# Altium schematic symbol library TEP_243-Altium_Library.SCHLIB: 49 symbols
Pins are listed as number, name and electrical type; pins without a type are passive.

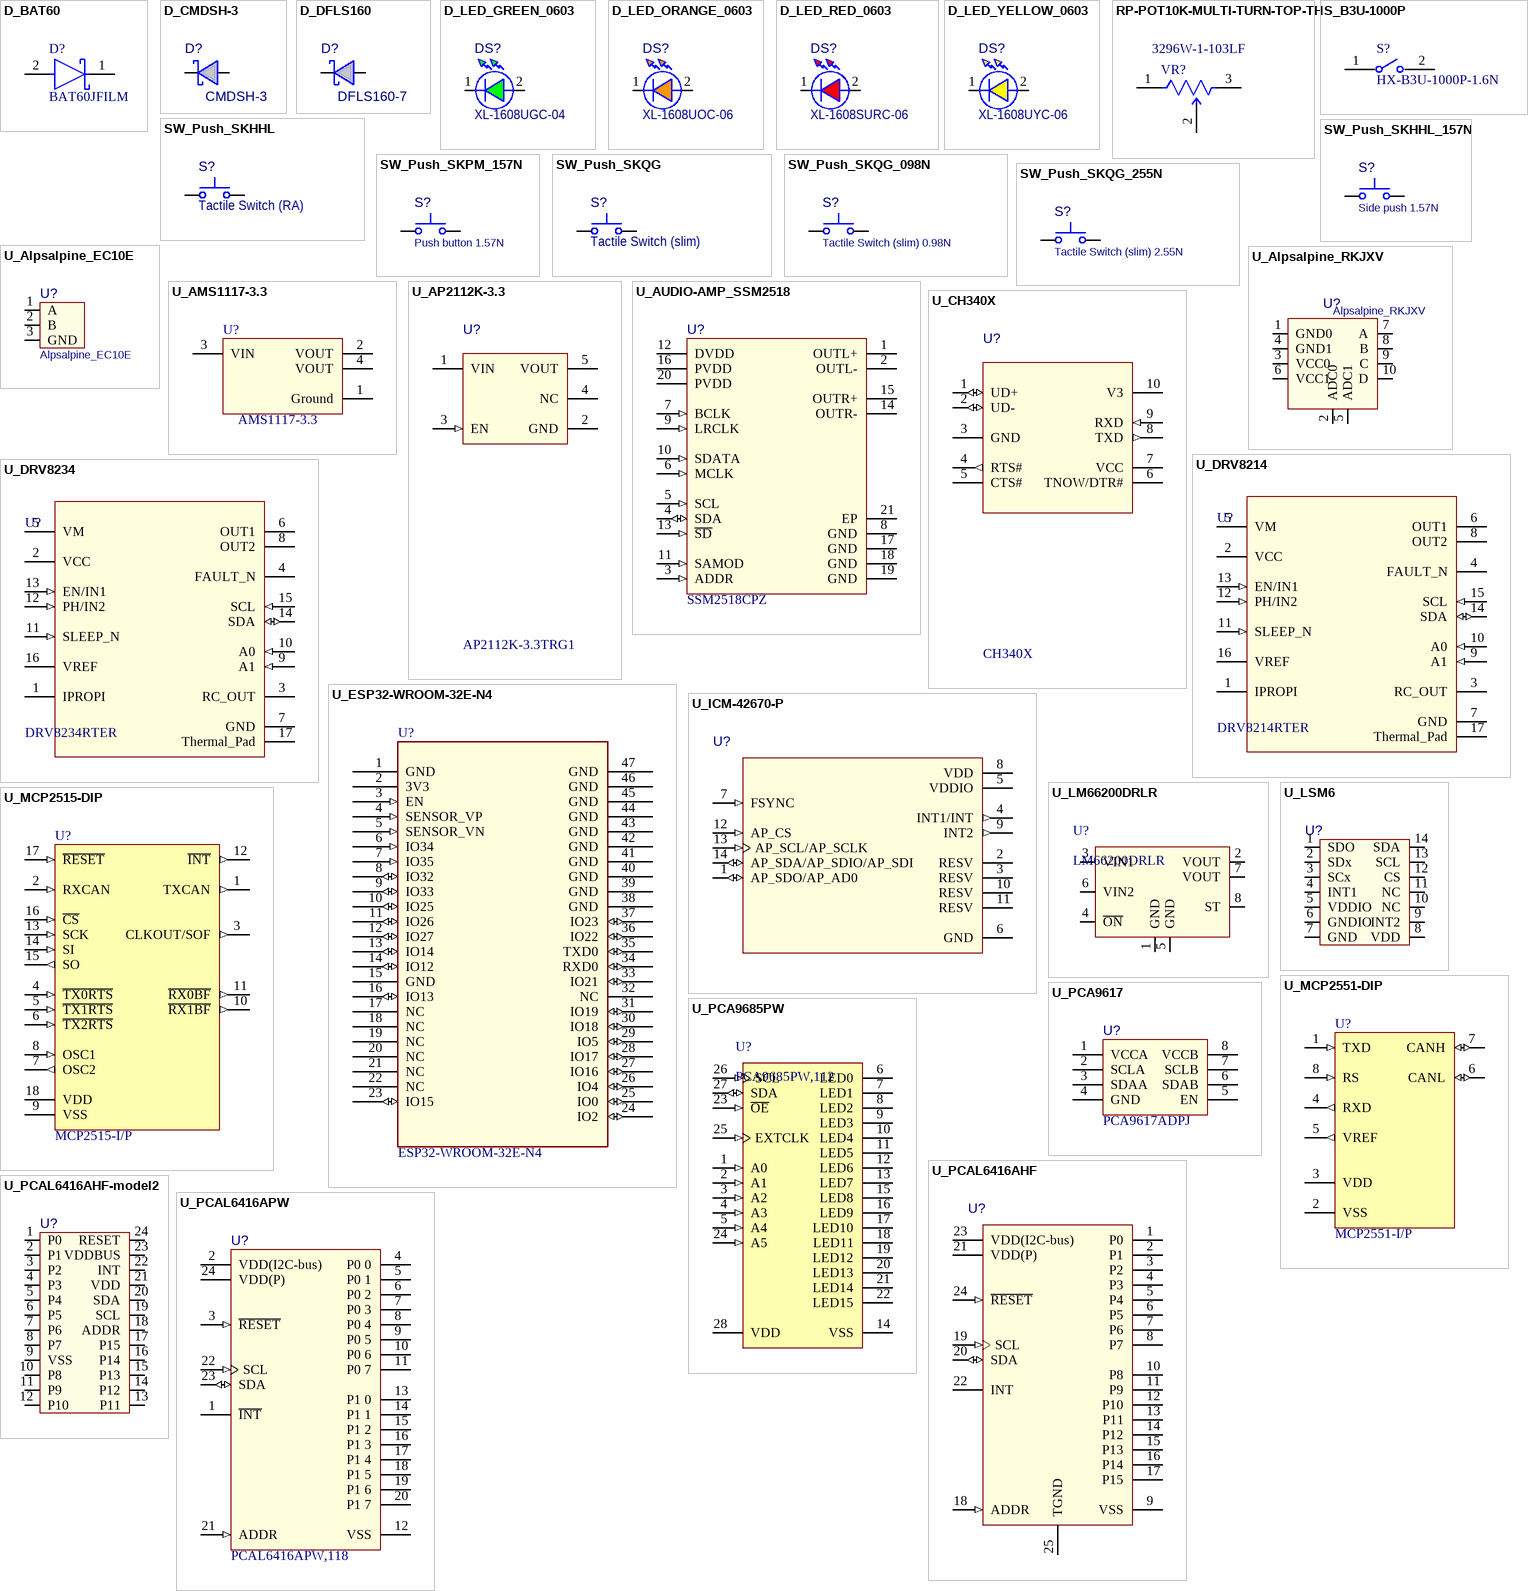
[diagram p0: symbols D_BAT60 to U_PCAL6416APW]

## D_BAT60
designator D?, comment BAT60JFILM
DIODE SCHOTTKY 10V 3A SOD323; Manufacturer 1: ST; Manufacturer Part Number 1: BAT60JFILM; Mounting Technology: SMT; Supplier 1: LCSC; Supplier Part Number 1: C133103
footprint SOD323
pins: 1 K, 2 A

## D_CMDSH-3
designator D?, comment CMDSH-3
Schottky Diode SOD-323; Manufacturer 1: Central Semiconductor; Value: CMDSH-3; Manufacturer Part Number 1: CMDSH-3; Mounting Technology: SMT; Supplier 1: LCSC; Supplier Part Number 1: C5240485
footprint D_SOD323N(TBD)
pins: 1 K, 2 A

## D_DFLS160
designator D?, comment DFLS160-7
Schottky Diode 60V 1A; Manufacturer 1: Diodes Incorporated; Value: DFLS160-7; Manufacturer Part Number 1: DFLS160-7; Mounting Technology: SMT; Supplier 1: LCSC; Supplier 2: DigiKey; Supplier Part Number 1: C177023; Supplier Part Number 2: DFLS160DICT-ND
footprint D_SOD123 (diode)
pins: 1 K, 2 A

## D_LED_GREEN_0603
designator DS?, comment XL-1608UGC-04
LED Green Clear 40mcd 140deg; Manufacturer 1: XINGLIGHT; Code CEGEP: KLEDVC0603; Value: Green; Manufacturer 2: Wurth; Manufacturer Part Number 1: XL-1608UGC-04; Manufacturer Part Number 2: 150060VS75000; Mounting Technology: SMT; Supplier 1: LCSC; Supplier 2: Digikey; Supplier Part Number 1: C965804; Supplier Part Number 2: 732-4980-1-ND
footprint D_LED_0603 (Chip LED, 2-Leads, Body 1.6x0.8mm, IPC Medium Density)
pins: 1 K, 2 A

## D_LED_ORANGE_0603
designator DS?, comment XL-1608UOC-06
LED Orange Clear; Manufacturer 1: XINGLIGHT; Code CEGEP: KLEDOC0603; Value: Orange; Manufacturer 2: Wurth; Manufacturer Part Number 1: XL-1608UOC-06; Manufacturer Part Number 2: 150060AS75000; Mounting Technology: SMT; Supplier 1: LCSC; Supplier 2: Digikey; Supplier Part Number 1: C965800; Supplier Part Number 2: 732-150060AS75000CT-ND
footprint D_LED_0603 (Chip LED, 2-Leads, Body 1.6x0.8mm, IPC Medium Density)
pins: 1 K, 2 A

## D_LED_RED_0603
designator DS?, comment XL-1608SURC-06
LED Red Clear 60mcd 140deg; Manufacturer 1: XINGLIGHT; Code CEGEP: KLEDRC0603; Value: Red; Manufacturer 2: Wurth; Manufacturer Part Number 1: XL-1608SURC-06; Manufacturer Part Number 2: 150060SS75000; Mounting Technology: SMT; Supplier 1: LCSC; Supplier 2: Digikey; Supplier Part Number 1: C965799; Supplier Part Number 2: 732-4979-1-ND
footprint D_LED_0603 (Chip LED, 2-Leads, Body 1.6x0.8mm, IPC Medium Density)
pins: 1 K, 2 A

## D_LED_YELLOW_0603
designator DS?, comment XL-1608UYC-06
LED Yellow Clear; Manufacturer 1: XINGLIGHT; Code CEGEP: KLEDJC0603; Value: Yellow; Manufacturer 3: Wurth; Manufacturer Part Number 1: XL-1608UYC-06; Manufacturer Part Number 2: 150060YS75000; Mounting Technology: SMT; Supplier 1: LCSC; Supplier 2: Digikey; Supplier Part Number 1: C965802; Supplier Part Number 2: 732-4981-1-ND
footprint D_LED_0603 (Chip LED, 2-Leads, Body 1.6x0.8mm, IPC Medium Density)
pins: 1 K, 2 A

## RP-POT10K-MULTI-TURN-TOP-TH
designator VR?, comment 3296W-1-103LF
TRIMMER 10K OHM 0.5W PC PIN TOP; Manufacturer 1: JIERR; Manufacturer Part Number 1: 3296W-1-103LF; Mounting Technology: TH; Manufacturer 2: BOURNS; Manufacturer Part Number 2: 3296W-1-103LF; Supplier 1: LCSC; Supplier 2: LCSC; Supplier Part Number 1: C49190453; Supplier Part Number 2: C34846
footprint R-POT-TH-TOP
pins: 1 CCW, 2 WIPER, 3 CW

## S_B3U-1000P
designator S?, comment HX-B3U-1000P-1.6N
SWITCH TACTILE SPST-NO 0.05A 12V; Manufacturer 1: hanxia; Mounting Technology: SMT; Supplier 1: LCSC; Supplier Part Number 1: C49234121; Manufacturer 2: Omron; Manufacturer Part Number 1: HX-B3U-1000P-1.6N; Manufacturer Part Number 2: B3U-1000P
footprint S_B3U-1000P
pins: 1, 2

## SW_Push_SKHHL
designator S?, comment value Tactile Switch (RA)  (hidden comment: SKHHLNA010)
Tactile Switch (Right Angle); Manufacturer 1: ALPSALPINE; Supplier Part Number 2: C125031; Supplier 2: LSSC; Manufacturer Part Number 1: SKHHLNA010; Supplier 1: Digi-Key; Supplier Part Number 1: 4809-SKHHLNA010-ND; Mounting Technology: TH
footprint S_Alpsalpine_SKHHL
pins: 1, 2

## SW_Push_SKHHL_157N
designator S?, comment value Side push 1.57N  (hidden comment: SKHHLNA010)
Side push 6.0mm Square Type (Snap-in) 1.57N l=3.85mm; Manufacturer 1: ALPSALPINE; Manufacturer Part Number 1: SKHHLNA010; Mounting Technology: TH; Supplier 1: LCSC; Supplier 2: DigiKey; Supplier Part Number 1: C125031; Supplier Part Number 2: 4809-SKHHLNA010-ND
footprint S_Alpsalpine_SKHHL
pins: 1, 2

## SW_Push_SKPM_157N
designator S?, comment value Push button 1.57N  (hidden comment: SKPMAME010)
Push button 1.57N; Manufacturer 1: ALPSALPINE; Manufacturer Part Number 1: SKPMAME010; Mounting Technology: SMT; Supplier 1: LCSC; Supplier 2: DigiKey; Supplier Part Number 1: C115348; Supplier Part Number 2: 4809-SKPMAME010CT-ND
footprint S_Alpsalpine_SKPM
pins: 1, 2

## SW_Push_SKQG
designator S?, comment value Tactile Switch (slim)  (hidden comment: SKQGAFE010)
Tactile Switch (dome); Manufacturer 1: ALPSALPINE; Supplier Part Number 2: C202424; Supplier 2: LSSC; Manufacturer Part Number 1: SKQGAFE010; Supplier 1: Digi-Key; Supplier Part Number 1: 4809-SKQGAFE010CT-ND; Mounting Technology: SMT
footprint S_Alpsalpine_SKQG
pins: 1, 2

## SW_Push_SKQG_098N
designator S?, comment value Tactile Switch (slim) 0.98N  (hidden comment: SKQGAFE010)
Tactile Switch (dome) 0.98N; Manufacturer 1: ALPSALPINE; Manufacturer Part Number 1: SKQGAFE010; Mounting Technology: SMT; Supplier 1: LCSC; Supplier 2: DigiKey; Supplier Part Number 1: C202424; Supplier Part Number 2: 4809-SKQGAFE010CT-ND
footprint S_Alpsalpine_SKQG
pins: 1, 2

## SW_Push_SKQG_255N
designator S?, comment value Tactile Switch (slim) 2.55N  (hidden comment: SKQGADE010)
Tactile Switch (dome) 2.55N; Manufacturer 1: ALPSALPINE; Manufacturer Part Number 1: SKQGADE010; Mounting Technology: SMT; Supplier 1: LCSC; Supplier 2: Digikey; Supplier Part Number 1: C116647; Supplier Part Number 2: 4809-SKQGADE010CT-ND
footprint S_Alpsalpine_SKQG
pins: 1, 2

## U_Alpsalpine_EC10E
designator U?, comment value Alpsalpine_EC10E  (hidden comment: EC10E1220503)
Rotary Encoder TH; Manufacturer 1: ALPSALPINE; Manufacturer Part Number 1: EC10E1220503; Mounting Technology: TH; Supplier 1: LCSC; Supplier 2: DigiKey; Supplier Part Number 1: C110291; Supplier Part Number 2: 4809-EC10E1220503-ND
footprint U_Alpsalpine_EC10E (Rotary Encoder TH)
pins: 1 A, 2 B, 3 GND

## U_Alpsalpine_RKJXV
designator U?, comment value Alpsalpine_RKJXV  (hidden comment: RKJXV122400R)
ThumbStick; Manufacturer 1: ALPSALPINE; Manufacturer Part Number 1: RKJXV122400R; Mounting Technology: TH; Supplier 1: LCSC; Supplier 2: Mouser; Supplier Part Number 1: C918854; Supplier Part Number 2: 688-RKJXV122400R
footprint U_Alpsalpine_RKJXV122400R (Thumb Stick TH)
pins: 1 GND0, 2 ADC0, 3 VCC0, 4 GND1, 5 ADC1, 6 VCC1, 7 A, 8 B, 9 C, 10 D

## U_AMS1117-3.3
designator U?, comment AMS1117-3.3
LDO Voltage Regulators 1A, 3.3V; Manufacturer 1: UMW; Manufacturer Part Number 1: AMS1117-3.3; Mounting Technology: SMT; Manufacturer 2: Advanced Monolithic Systems; Manufacturer Part Number 2: AMS1117-3.3; Supplier 1: LCSC; Supplier 2: LCSC; Supplier Part Number 1: C347222; Supplier Part Number 2: C6186
footprint SOT-223
pins: 1 Ground (power), 2 VOUT, 3 VIN (power), 4 VOUT

## U_AP2112K-3.3
designator U?, comment AP2112K-3.3TRG1
IC REG LINEAR 3.3V 600MA SOT23-5; Manufacturer 1: Diodes Incorporated; Manufacturer Part Number 1: AP2112K-3.3TRG1; Mounting Technology: SMT; Supplier 1: LCSC; Supplier 2: DigiKey; Supplier Part Number 1: C51118; Supplier Part Number 2: AP2112K-3.3TRG1DICT-ND
footprint U_SOT23-5N(MO-178)
pins: 1 VIN (power), 2 GND (power), 3 EN (in), 4 NC, 5 VOUT (power)

## U_AUDIO-AMP_SSM2518
designator U?, comment SSM2518CPZ
IC AMP CLASS D STER 2.5W 20LFCSP; Manufacturer 1: Analog Devices; Manufacturer Part Number 1: SSM2518CPZ; Mounting Technology: SMT; Supplier 1: Digi-Key; Supplier 2: LSSC; Supplier Part Number 1: 505-SSM2518CPZ-ND; Supplier Part Number 2: C208202
footprint FP-CP-20-8-IPC_N
pins: 1 OUTL+, 2 OUTL-, 3 ADDR (in), 4 SDA (io), 5 SCL (in), 6 MCLK (in), 7 BCLK (in), 8 GND (power), 9 LRCLK (in), 10 SDATA (in), 11 SAMOD (in), 12 DVDD (power), 13 ~{SD} (in), 14 OUTR-, 15 OUTR+, 16 PVDD (power), 17 GND (power), 18 GND (power), 19 GND (power), 20 PVDD (power), 21 EP

## U_CH340X
designator U?, comment CH340X
IC USB to Serial Port; Manufacturer 1: WCH(Jiangsu Qin Heng); Code CEGEP: KPTSO02; Manufacturer Part Number 1: CH340X; Mounting Technology: SMT; Supplier 1: LCSC; Supplier Part Number 1: C3035748
footprint U_MSOP50P300X500-10(RM-10)_WO-TP (Shrink Small Outline; 10 Leads; Body Width 3 mm; Pitch 0.5 mm)
pins: 1 UD+ (io), 2 UD- (io), 3 GND (power), 4 RTS# (out), 5 CTS#, 6 TNOW/DTR#, 7 VCC (power), 8 TXD (out), 9 RXD (in), 10 V3 (power)

## U_DRV8214
designator U?, comment DRV8214RTER
Brushed DC H-bridge Motor Driver with Ripple Counting, Stall Detection, and Speed Regulation 11V 2A 16-WQFN; Manufacturer 1: Texas Instruments; Mounting Technology: SMT; Manufacturer Part Number 1: DRV8214RTER; Supplier 1: LCSC
footprint U_WQFN50P300X300-16
pins: 1 IPROPI, 2 VCC (power), 3 RC_OUT (oc), 4 FAULT_N (oc), 5 VM (power), 6 OUT1, 7 GND (power), 8 OUT2, 9 A1 (in), 10 A0 (in), 11 SLEEP_N (in), 12 PH/IN2 (in), 13 EN/IN1 (in), 14 SDA (io), 15 SCL (in), 16 VREF, 17 Thermal_Pad (power)

## U_DRV8234
designator U?, comment DRV8234RTER
Brushed DC H-bridge Motor Driver with Ripple Counting, Stall Detection, and Speed Regulation 38V 2A 16-WQFN; Manufacturer 1: Texas Instruments; Mounting Technology: SMT; Manufacturer Part Number 1: DRV8234RTER; Supplier 1: LCSC
footprint U_WQFN50P300X300-16
pins: 1 IPROPI, 2 VCC (power), 3 RC_OUT (oc), 4 FAULT_N (oc), 5 VM (power), 6 OUT1, 7 GND (power), 8 OUT2, 9 A1 (in), 10 A0 (in), 11 SLEEP_N (in), 12 PH/IN2 (in), 13 EN/IN1 (in), 14 SDA (io), 15 SCL (in), 16 VREF, 17 Thermal_Pad (power)

## U_ESP32-WROOM-32E-N4
designator U?, comment ESP32-WROOM-32E-N4
Description; Manufacturer 1: Espressif Systems; Manufacturer Part Number 1: ESP32-WROOM-32E-N4; Supplier 1: LCSC; Supplier Part Number 1: C701341
footprint ESP32­WROOM­32E_EXP
footprint ESP32­WROOM­32E_EXP-TH
pins: 1 GND (power), 2 3V3 (power), 3 EN (in), 4 SENSOR_VP (in), 5 SENSOR_VN (in), 6 IO34 (in), 7 IO35 (in), 8 IO32 (io), 9 IO33 (io), 10 IO25 (io), 11 IO26 (io), 12 IO27 (io), 13 IO14 (io), 14 IO12 (io), 15 GND (power), 16 IO13 (io), 17 NC, 18 NC, 19 NC, 20 NC, 21 NC, 22 NC, 23 IO15 (io), 24 IO2 (io), 25 IO0 (io), 26 IO4 (io), 27 IO16 (io), 28 IO17 (io), 29 IO5 (io), 30 IO18 (io), 31 IO19 (io), 32 NC, 33 IO21 (io), 34 RXD0 (io), 35 TXD0 (io), 36 IO22 (io), 37 IO23 (io), 38 GND (power), 39 GND (power), 40 GND (power), 41 GND (power), 42 GND (power), 43 GND (power), 44 GND (power), 45 GND (power), 46 GND (power), 47 GND (power)

## U_ICM-42670-P
designator U?, comment ICM-42670-P  (value not drawn)
3D Accelerometer/Gyro; Manufacturer 1: TDK; Manufacturer Part Number 1: ICM-42670-P; Mounting Technology: SMT; Supplier 1: LCSC; Supplier 2: DigiKey; Supplier Part Number 1: C3288646; Supplier Part Number 2: 1428-ICM-42670-PCT-ND
footprint U_LGA50P250X300X86-14N
pins: 1 AP_SDO/AP_AD0 (io), 2 RESV, 3 RESV, 4 INT1/INT (out), 5 VDDIO (power), 6 GND (power), 7 FSYNC (in), 8 VDD (power), 9 INT2 (out), 10 RESV, 11 RESV, 12 AP_CS (in), 13 AP_SCL/AP_SCLK (in), 14 AP_SDA/AP_SDIO/AP_SDI (io)

## U_LM66200DRLR
designator U?, comment LM66200DRLR
ORing Controller N-Channel 2:1 SOT-583; Manufacturer 1: Texas Instruments; Code CEGEP: KPTSO05; Manufacturer Part Number 1: LM66200DRLR; Supplier 1: LCSC; Supplier 2: Digikey; Supplier Part Number 1: C3235556; Supplier Part Number 2: 296-LM66200DRLRCT-ND
footprint U_SOT583_50P210X120X60-8 (SOT-583)
pins: 1 GND (power), 2 VOUT (power), 3 VIN1 (power), 4 ~{ON}, 5 GND (power), 6 VIN2 (power), 7 VOUT (power), 8 ST (oe)

## U_LSM6
designator U?, comment LSM6DS3TR  (value not drawn)
3D Accelerometer/Gyro; Manufacturer 1: STMicroelectronics; Value: ST_LSM6; Manufacturer Part Number 1: LSM6DS3TR; Mounting Technology: SMT; Supplier 1: LCSC; Supplier Part Number 1: C95230
footprint U_LGA50P250X300X86-14N
pins: 1 SDO, 2 SDx, 3 SCx, 4 INT1, 5 VDDIO, 6 GNDIO, 7 GND, 8 VDD, 9 INT2, 10 NC, 11 NC, 12 CS, 13 SCL, 14 SDA

## U_MCP2515-DIP
designator U?, comment MCP2515-I/P
CAN Controller Stand-Alone With SPI, 18-Pin PDIP; Manufacturer 1: Microchip; Code CEGEP: IC2515; Manufacturer Part Number 1: MCP2515-I/P; Supplier 1: Digi-Key; Supplier Part Number 1: MCP2515-I/P-ND; Mounting Technology: TH
footprint PDIP300-P18 (DIP, 18-Pin, Row Spacing 7.62 mm, Pitch 2.54 mm)
pins: 1 TXCAN (out), 2 RXCAN (in), 3 CLKOUT/SOF (out), 4 ~{TX0RTS} (in), 5 ~{TX1RTS} (in), 6 ~{TX2RTS} (in), 7 OSC2 (out), 8 OSC1 (in), 9 VSS (power), 10 ~{RX1BF} (out), 11 ~{RX0BF} (out), 12 ~{INT} (out), 13 SCK (in), 14 SI (in), 15 SO (out), 16 ~{CS} (in), 17 ~{RESET} (in), 18 VDD (power)

## U_MCP2551-DIP
designator U?, comment MCP2551-I/P
CAN Transceiver, 8-Pin PDIP,; Manufacturer 1: Microchip; Code CEGEP: PTSO0175; Manufacturer Part Number 1: MCP2551-I/P; Mounting Technology: TH
footprint PDIP300-P8 (8-Pin Plastic Dual In-Line Package (PDIP))
pins: 1 TXD (in), 2 VSS (power), 3 VDD (power), 4 RXD (out), 5 VREF (out), 6 CANL (io), 7 CANH (io), 8 RS (in)

## U_PCA9617
designator U?, comment PCA9617ADPJ
Level translating Fm+ I2C-bus repeater; Manufacturer 1: NXP; Manufacturer Part Number 1: PCA9617ADPJ; Supplier 1: Digi-Key; Supplier Part Number 1: 568-10211-1-ND; Mounting Technology: SMT; Supplier 2: LSSC; Supplier Part Number 2: C128388
footprint U_TSSOP65P300X300-8N(SOT505-1)
pins: 1 VCCA (power), 2 SCLA, 3 SDAA, 4 GND (power), 5 EN, 6 SDAB, 7 SCLB, 8 VCCB (power)

## U_PCA9685PW
designator U?, comment PCA9685PW,112
16-Channel, 12-Bit PWM I2C-Bus LED Controller, 28-Pin TSSOP (SOT361-1); Manufacturer 1: NXP; Code CEGEP: PTSO316; Manufacturer Part Number 1: PCA9685PW,112; Mounting Technology: SMT; Supplier 1: Digi-Key; Supplier Part Number 1: 568-8366-5-ND
footprint TSSOP28_SOT361-1_V (SOP, 28-Leads, Body 9.7x4.4mm, Pitch 0.65mm, NXP Recommended)
pins: 1 A0 (in) "address input 0", 2 A1 (in) "address input 1", 3 A2 (in) "address input 2", 4 A3 (in) "address input 3", 5 A4 (in) "address input 4", 6 LED0 (hiz) "LED driver 0", 7 LED1 (hiz) "LED driver 1", 8 LED2 (hiz) "LED driver 2", 9 LED3 (hiz) "LED driver 3", 10 LED4 (hiz) "LED driver 4", 11 LED5 (hiz) "LED driver 5", 12 LED6 (hiz) "LED driver 6", 13 LED7 (hiz) "LED driver 7", 14 VSS (power) "supply ground", 15 LED8 (hiz) "LED driver 8", 16 LED9 (hiz) "LED driver 9", 17 LED10 (hiz) "LED driver 10", 18 LED11 (hiz) "LED driver 11", 19 LED12 (hiz) "LED driver 12", 20 LED13 (hiz) "LED driver 13", 21 LED14 (hiz) "LED driver 14", 22 LED15 (hiz) "LED driver 15", 23 ~{OE} (in) "active LOW output enable", 24 A5 (in) "address input 5", 25 EXTCLK (in) "external clock input", 26 SCL (in) "serial clock line", 27 SDA (io) "serial data line", 28 VDD (power) "supply voltage"

## U_PCAL6416AHF
designator U?, comment TCA6416ARTWR  (value not drawn)
IC I/O EXPANDER 16BIT  QFN24; Manufacturer 1: Texas Instrument; Manufacturer 2: NXP; Manufacturer Part Number 1: TCA6416ARTWR; Manufacturer Part Number 2: PCAL6416AHF,128; Mounting Technology: SMT; Value: TCA6416ARTWR; Supplier 1: LCSC; Supplier 2: LCSC; Supplier 3: Digikey; Supplier Part Number 1: C182336; Supplier Part Number 2: C2652287; Supplier Part Number 3: 568-9946-1-ND
footprint U_QFN50P400X400X90-24L
pins: 1 P0, 2 P1, 3 P2, 4 P3, 5 P4, 6 P5, 7 P6, 8 P7, 9 VSS (power), 10 P8, 11 P9, 12 P10, 13 P11, 14 P12, 15 P13, 16 P14, 17 P15, 18 ADDR (in), 19 SCL (in), 20 SDA (io), 21 VDD(P) (power), 22 INT (oc), 23 VDD(I2C-bus) (power), 24 ~{RESET} (in), 25 TGND

## U_PCAL6416AHF-model2
designator U?, comment TCA6416ARTWR  (value not drawn)
IC I/O EXPANDER 16BIT  QFN24; Manufacturer 1: Texas Instrument; Manufacturer Part Number 1: TCAL6416RTWR; Manufacturer 2: NXP; Manufacturer Part Number 2: PCAL6416AHF,128; Mounting Technology: SMT; Value: TCA6416ARTWR; Supplier 1: LCSC; Supplier 2: LCSC; Supplier 3: Digikey; Supplier Part Number 1: C182336; Supplier Part Number 2: C2652287; Supplier Part Number 3: 568-9946-1-ND
footprint U_QFN50P400X400X90-24L
pins: 1 P0, 2 P1, 3 P2, 4 P3, 5 P4, 6 P5, 7 P6, 8 P7, 9 VSS, 10 P8, 11 P9, 12 P10, 13 P11, 14 P12, 15 P13, 16 P14, 17 P15, 18 ADDR, 19 SCL, 20 SDA, 21 VDD, 22 INT, 23 VDDBUS, 24 RESET

## U_PCAL6416APW
designator U?, comment PCAL6416APW,118
IC I/O EXPANDER 16BIT 24TSSOP; Manufacturer Part Number 1: TCA6416APWR; Manufacturer 1: Texas Instruments; Manufacturer 2: NXP Semiconductors; Manufacturer Part Number 2: PCAL6416APW,118; Mounting Technology: SMT; Supplier 1: LCSC; Supplier 2: LCSC; Supplier 3: Digikey; Supplier Part Number 1: C130203; Supplier Part Number 2: C2652299; Supplier Part Number 3: 568-9922-1-ND
footprint U_TSSOP24_SOT355-1-IPC_B
pins: 1 ~{INT} (oc), 2 VDD(I2C-bus) (power), 3 ~{RESET} (in), 4 P0 0, 5 P0 1, 6 P0 2, 7 P0 3, 8 P0 4, 9 P0 5, 10 P0 6, 11 P0 7, 12 VSS (power), 13 P1 0, 14 P1 1, 15 P1 2, 16 P1 3, 17 P1 4, 18 P1 5, 19 P1 6, 20 P1 7, 21 ADDR (in), 22 SCL (in), 23 SDA (io), 24 VDD(P) (power)

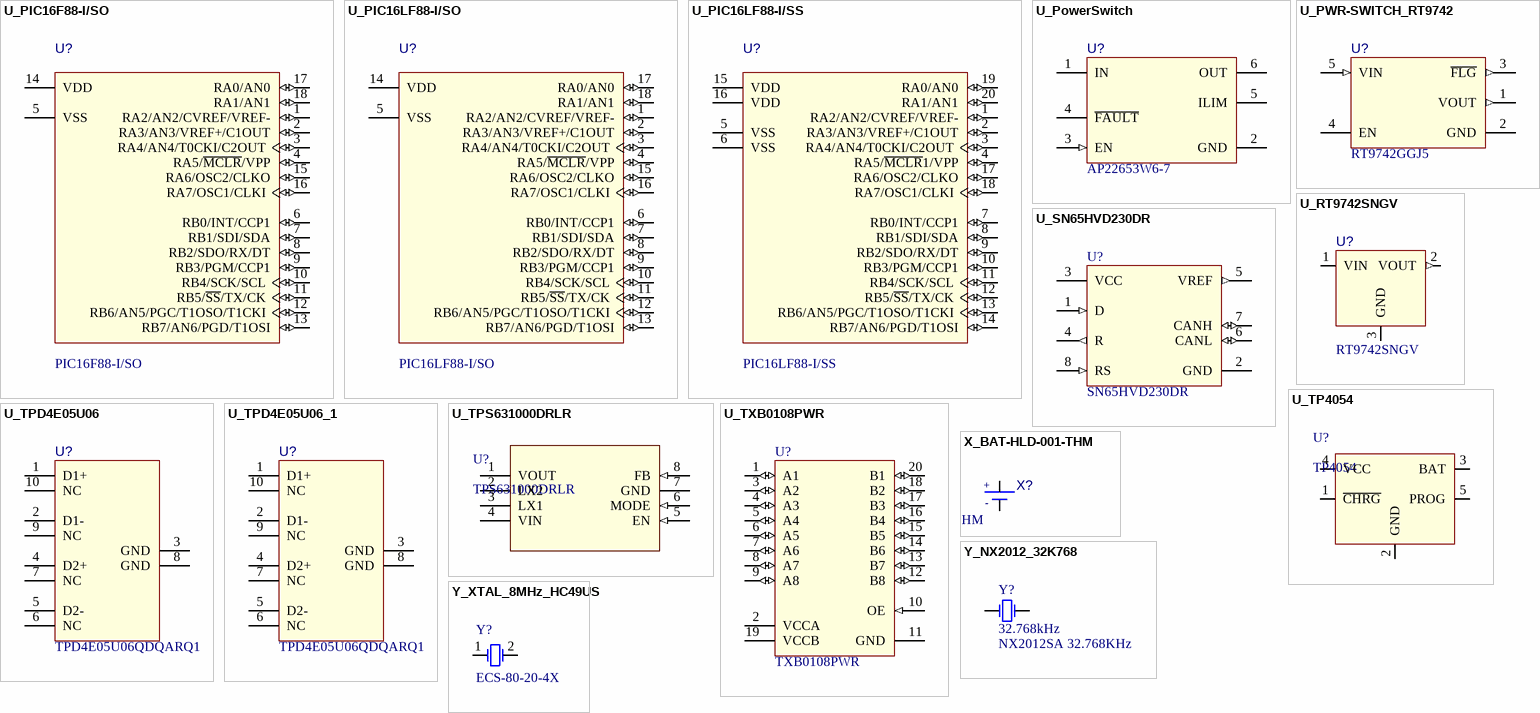
[diagram p1: symbols U_PIC16F88-I/SO to Y_XTAL_8MHz_HC49US]

## U_PIC16F88-I/SO
designator U?, comment PIC16F88-I/SO
Microcontroller, 10-Bit A/D, 4K FLASH, 368 Bytes RAM, 18-Pin SOIC, Standard VDD Range, Industrial Temperature; Manufacturer 1: Microchip; Manufacturer Part Number 1: PIC16F88-I/SO; Mounting Technology: SMT; Supplier 1: LCSC; Supplier Part Number 1: C642683
footprint U_SOIC-SO18_N
pins: 1 RA2/AN2/CVREF/VREF- (io), 2 RA3/AN3/VREF+/C1OUT (io), 3 RA4/AN4/T0CKI/C2OUT (io), 4 RA5/~{MCLR}/VPP (io), 5 VSS (power), 6 RB0/INT/CCP1 (io), 7 RB1/SDI/SDA (io), 8 RB2/SDO/RX/DT (io), 9 RB3/PGM/CCP1 (io), 10 RB4/SCK/SCL (io), 11 RB5/~{SS}/TX/CK (io), 12 RB6/AN5/PGC/T1OSO/T1CKI (io), 13 RB7/AN6/PGD/T1OSI (io), 14 VDD (power), 15 RA6/OSC2/CLKO (io), 16 RA7/OSC1/CLKI (io), 17 RA0/AN0 (io), 18 RA1/AN1 (io)

## U_PIC16LF88-I/SO
designator U?, comment PIC16LF88-I/SO
Microcontroller, 10-Bit A/D, 4K FLASH, 368 Bytes RAM, 18-Pin SOIC, Extended VDD Range, Industrial Temperature; Manufacturer 1: Microchip; Manufacturer Part Number 1: PIC16LF88-I/SO; Mounting Technology: SMT; Supplier 1: LCSC; Supplier Part Number 1: C642748
footprint U_SOIC-SO18_N
pins: 1 RA2/AN2/CVREF/VREF- (io), 2 RA3/AN3/VREF+/C1OUT (io), 3 RA4/AN4/T0CKI/C2OUT (io), 4 RA5/~{MCLR}/VPP (io), 5 VSS (power), 6 RB0/INT/CCP1 (io), 7 RB1/SDI/SDA (io), 8 RB2/SDO/RX/DT (io), 9 RB3/PGM/CCP1 (io), 10 RB4/SCK/SCL (io), 11 RB5/~{SS}/TX/CK (io), 12 RB6/AN5/PGC/T1OSO/T1CKI (io), 13 RB7/AN6/PGD/T1OSI (io), 14 VDD (power), 15 RA6/OSC2/CLKO (io), 16 RA7/OSC1/CLKI (io), 17 RA0/AN0 (io), 18 RA1/AN1 (io)

## U_PIC16LF88-I/SS
designator U?, comment PIC16LF88-I/SS
Microcontroller, 10-Bit A/D, 4K FLASH, 368 Bytes RAM, 18-Pin SOP20, Extended VDD Range, Industrial Temperature; Manufacturer 1: Microchip; Manufacturer Part Number 1: PIC16LF88-I/SS; Mounting Technology: SMT; Supplier 1: LCSC; Supplier Part Number 1: C219832
footprint U_SSOP65P720X520-SS20_N (SOP, 20-Leads, Body 7.2x5.2mm, Pitch 0.65mm, IPC Medium Density)
pins: 1 RA2/AN2/CVREF/VREF- (io), 2 RA3/AN3/VREF+/C1OUT (io), 3 RA4/AN4/T0CKI/C2OUT (io), 4 RA5/~{MCLR}1/VPP (io), 5 VSS (power), 6 VSS (power), 7 RB0/INT/CCP1 (io), 8 RB1/SDI/SDA (io), 9 RB2/SDO/RX/DT (io), 10 RB3/PGM/CCP1 (io), 11 RB4/SCK/SCL (io), 12 RB5/~{SS}/TX/CK (io), 13 RB6/AN5/PGC/T1OSO/T1CKI (io), 14 RB7/AN6/PGD/T1OSI (io), 15 VDD (power), 16 VDD (power), 17 RA6/OSC2/CLKO (io), 18 RA7/OSC1/CLKI (io), 19 RA0/AN0 (io), 20 RA1/AN1 (io)

## U_PowerSwitch
designator U?, comment AP22653W6-7
LOAD SWITCH,SOT26,T&R,3K; Manufacturer 1: Diodes Incorporated; Manufacturer Part Number 1: AP22653W6-7; Mounting Technology: SMT; Supplier 1: Digi-Key; Supplier 2: LSSC; Supplier Part Number 1: 31-AP22653W6-7CT-ND; Supplier Part Number 2: C2158037
footprint FP-SOT26-IPC_N
pins: 1 IN (power), 2 GND (power), 3 EN (in), 4 ~{FAULT} (oc), 5 ILIM, 6 OUT

## U_PWR-SWITCH_RT9742
designator U?, comment RT9742GGJ5
IC PWR SWTCH N-CHAN 1:1 TSOT23-5; Manufacturer 1: Richtek Technology; Manufacturer Part Number 1: RT9742GGJ5; Mounting Technology: SMT; Supplier 1: Digi-Key; Supplier 2: LSSC; Supplier Part Number 1: 1028-1436-1-ND; Supplier Part Number 2: C250547
footprint FP-RT9742GGJ5-IPC_N
pins: 1 VOUT (out), 2 GND (power), 3 ~{FLG} (out), 4 EN, 5 VIN (in)

## U_RT9742SNGV
designator U?, comment RT9742SNGV
IC PWR SWITCH N-CHAN 1:1 SOT23-3; Manufacturer 1: Richtek Technology; Manufacturer Part Number 1: RT9742SNGV; Mounting Technology: SMT; Supplier 1: Digi-Key; Supplier 2: LSSC; Supplier Part Number 1: 1028-RT9742SNGVCT-ND; Supplier Part Number 2: C3235509
footprint SOT_42SNGV_RIT
pins: 1 VIN, 2 VOUT (out), 3 GND (power)

## U_SN65HVD230DR
designator U?, comment SN65HVD230DR
IC TRANSCEIVER HALF 1/1 8SOIC; Manufacturer 1: TI; Manufacturer Part Number 1: SN65HVD230DR; Mounting Technology: SMT; Supplier 1: LCSC; Supplier Part Number 1: C12084
footprint SOIC-8
pins: 1 D (in), 2 GND (power), 3 VCC (power), 4 R (out), 5 VREF (out), 6 CANL (io), 7 CANH (io), 8 RS (in)

## U_TP4054
designator U?, comment TP4054
Battery charger Li-ion Linear 1-cell; Manufacturer 1: HXY MOSFET; Code CEGEP: KPTSO06; Manufacturer 2: Suntek; Manufacturer Part Number 2: SK4054S5-42; Manufacturer Part Number 1: TP4054; Supplier 1: LCSC; Supplier 2: Digikey; Supplier Part Number 1: C668215; Supplier Part Number 2: 4518-TP4054CT-ND
footprint U_SOT23-5N(MO-178)
pins: 1 ~{CHRG}, 2 GND (power), 3 BAT (power), 4 VCC (power), 5 PROG

## U_TPD4E05U06
designator U?, comment TPD4E05U06QDQARQ1
TVS DIODE 5.5V 14V 10USON; Manufacturer 1: Texas Instruments; Manufacturer 2: ElecSuper; Manufacturer Part Number 2: TPD4E05U06QDQARQ1-ES; Manufacturer Part Number 1: TPD4E05U06QDQARQ1; Mounting Technology: SMT; Supplier 1: LCSC; Supplier 2: Digikey; Supplier Part Number 1: C81353; Supplier Part Number 2: 296-40696-1-ND
footprint U_USON50P250X100-10
pins: 1 D1+, 2 D1-, 3 GND (power), 4 D2+, 5 D2-, 6 NC, 7 NC, 8 GND (power), 9 NC, 10 NC

## U_TPD4E05U06_1
designator U?, comment TPD4E05U06QDQARQ1
TVS DIODE 5.5V 14V 10USON; Manufacturer 1: Texas Instruments; Manufacturer 2: ElecSuper; Manufacturer Part Number 2: TPD4E05U06QDQARQ1-ES; Manufacturer Part Number 1: TPD4E05U06QDQARQ1; Mounting Technology: SMT; Supplier 1: LCSC; Supplier 2: Digikey; Supplier Part Number 1: C81353; Supplier Part Number 2: 296-40696-1-ND
footprint FP-DQA0010A-MFG
pins: 1 D1+, 2 D1-, 3 GND (power), 4 D2+, 5 D2-, 6 NC, 7 NC, 8 GND (power), 9 NC, 10 NC

## U_TPS631000DRLR
designator U?, comment TPS631000DRLR
buck-boost converter 1.5-A output current,; Manufacturer 1: Texas Instruments; Code CEGEP: KPTSO09; Manufacturer Part Number 1: TPS631000DRLR; Supplier 1: LCSC; Supplier 2: Digikey; Supplier Part Number 1: C5219190; Supplier Part Number 2: 296-TPS631000DRLRCT-ND
footprint U_SOT583_50P210X120X60-8 (SOT-583)
pins: 1 VOUT (power), 2 LX2 (power), 3 LX1 (power), 4 VIN (power), 5 EN (in), 6 MODE (in), 7 GND (power), 8 FB (in)

## U_TXB0108PWR
designator U?, comment TXB0108PWR
IC 8-Bit Bidirectional Voltage-Level Translator with Auto-Direction Sensing 20-Pin TSSOP (PW); Manufacturer 1: Texas Instruments; Mounting Technology: SMT; Manufacturer Part Number 1: TXB0108PWR; Supplier 1: LCSC; Supplier Part Number 1: C53406
footprint U_TSSOP65P660X450-20 (SOP, 20-Leads, Body 6.6x4.5mm, Pitch 0.65mm, IPC Medium Density)
pins: 1 A1 (io) "Input/output 1. Referenced to VCCA.", 2 VCCA (power) "A-port supply voltage. 1.1 V =< VCCA =< 3.6 V, VCCA =< VCCB.", 3 A2 (io) "Input/output 2. Referenced to VCCA.", 4 A3 (io) "Input/output 3. Referenced to VCCA.", 5 A4 (io) "Input/output 4. Referenced to VCCA.", 6 A5 (io) "Input/output 5. Referenced to VCCA.", 7 A6 (io) "Input/output 6. Referenced to VCCA.", 8 A7 (io) "Input/output 7. Referenced to VCCA.", 9 A8 (io) "Input/output 8. Referenced to VCCA.", 10 OE (in) "Output enable. Pull OE low to place all outputs in 3-state mode. Referenced to VCCA.", 11 GND (power) "Ground", 12 B8 (io) "Input/output 8. Referenced to VCCB.", 13 B7 (io) "Input/output 7. Referenced to VCCB.", 14 B6 (io) "Input/output 6. Referenced to VCCB.", 15 B5 (io) "Input/output 5. Referenced to VCCB.", 16 B4 (io) "Input/output 4. Referenced to VCCB.", 17 B3 (io) "Input/output 3. Referenced to VCCB.", 18 B2 (io) "Input/output 2. Referenced to VCCB.", 19 VCCB (power) "B-port supply voltage. 1.65 V =< VCCB =< 5.5 V.", 20 B1 (io) "Input/output 1. Referenced to VCCB."

## X_BAT-HLD-001-THM
designator X?, comment BAT-HLD-001-THM
Holder Coin Cell CR2032 20mm TH; Manufacturer 1: TE Connectivity Linx; Manufacturer Part Number 1: BAT-HLD-001-THM; Value: BAT-HLD-001-THM; Supplier 1: Digi-Key; Supplier Part Number 1: BAT-HLD-001-THM-ND; Mounting Technology: TH; Supplier 2: LSSC; Supplier Part Number 2: C22417572
footprint X_BAT-HLD-001-THM (Holder Coin Cell CR2032 20mm dia. TH)
pins: 1 -, 2 +, 3 +, 4 +, 5 +

## Y_NX2012_32K768
designator Y?, comment NX2012SA 32.768KHz  value 32.768kHz
Crystal NDK 2.0x1.2mm  32.768 KHz; Manufacturer Part Number 1: NX2012SA 32.768KHz  EXS00A-MU00389; Manufacturer 1: NDK; Manufacturer 2: Epson; Manufacturer Part Number 2: X1A0000610008; Supplier Part Number 1: C96341; Supplier 1: LCSC; Mounting Technology: SMT
footprint Y_2012_2P
pins: 1 OSC1, 2 OSC2

## Y_XTAL_8MHz_HC49US
designator Y?, comment ECS-80-20-4X
Crystal 8MHz TH; Manufacturer 1: ECS; Code CEGEP: CRISTAL0041; Mounting Technology: TH; Manufacturer Part Number 1: ECS-80-20-4X; Supplier 1: Digi-Key; Supplier Part Number 1: XC1922-ND; Value: 8MHz
footprint Y_HC-49-US (Xtal)
pins: 1, 2